# EAGLE library part ZM1370 (library mynixies)
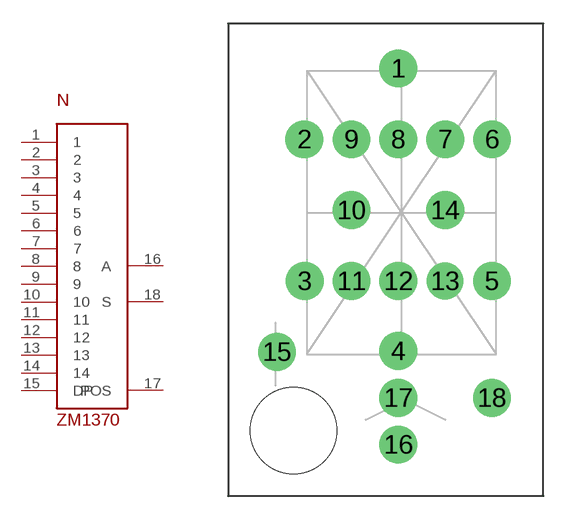
[diagram p25: symbol with the pads of ZM1370; footprint ZM1370]

Designator prefix N

## ZM1370  [ZM1370]
1  1  pas
2  2  pas
3  3  pas
4  4  pas
5  5  pas
6  6  pas
7  7  pas
8  8  pas
9  9  pas
10  10  pas
11  11  pas
12  12  pas
13  13  pas
14  14  pas
15  DP  pas
16  A  pas
17  POS  pas
18  S  pas

## Footprint ZM1370 (pad centres in mm)
drill 1.6: 1 0.8,12.15; 2 -5.17,7.65; 3 -5.14,-1.35; 4 0.8,-5.8; 5 6.74,-1.35; 6 6.74,7.65; 7 3.77,7.65; 8 0.8,7.65; 9 -2.17,7.65; 10 -2.17,3.15; 11 -2.17,-1.35; 12 0.8,-1.35; 14 3.77,3.15; 15 -6.9,-5.85; 16 0.8,-11.74; 17 0.8,-8.77; 18 6.74,-8.77
drill 1.55: 13 3.77,-1.35
hole 5.5 at -5.86,-10.85